# Altium footprint library arduino_PcbLib.PcbLib: 29 footprints (part 2 of 2)
Each footprint in its own frame and in the unit in brackets; x right, y up, seen from the top. Pads: shape width x height; smd on the part's side, far side on the other; paste and mask are expansions set on the pad; w line width, h text height; cw(c..) or ccw(c..) is an arc to the next point about the centre after c.
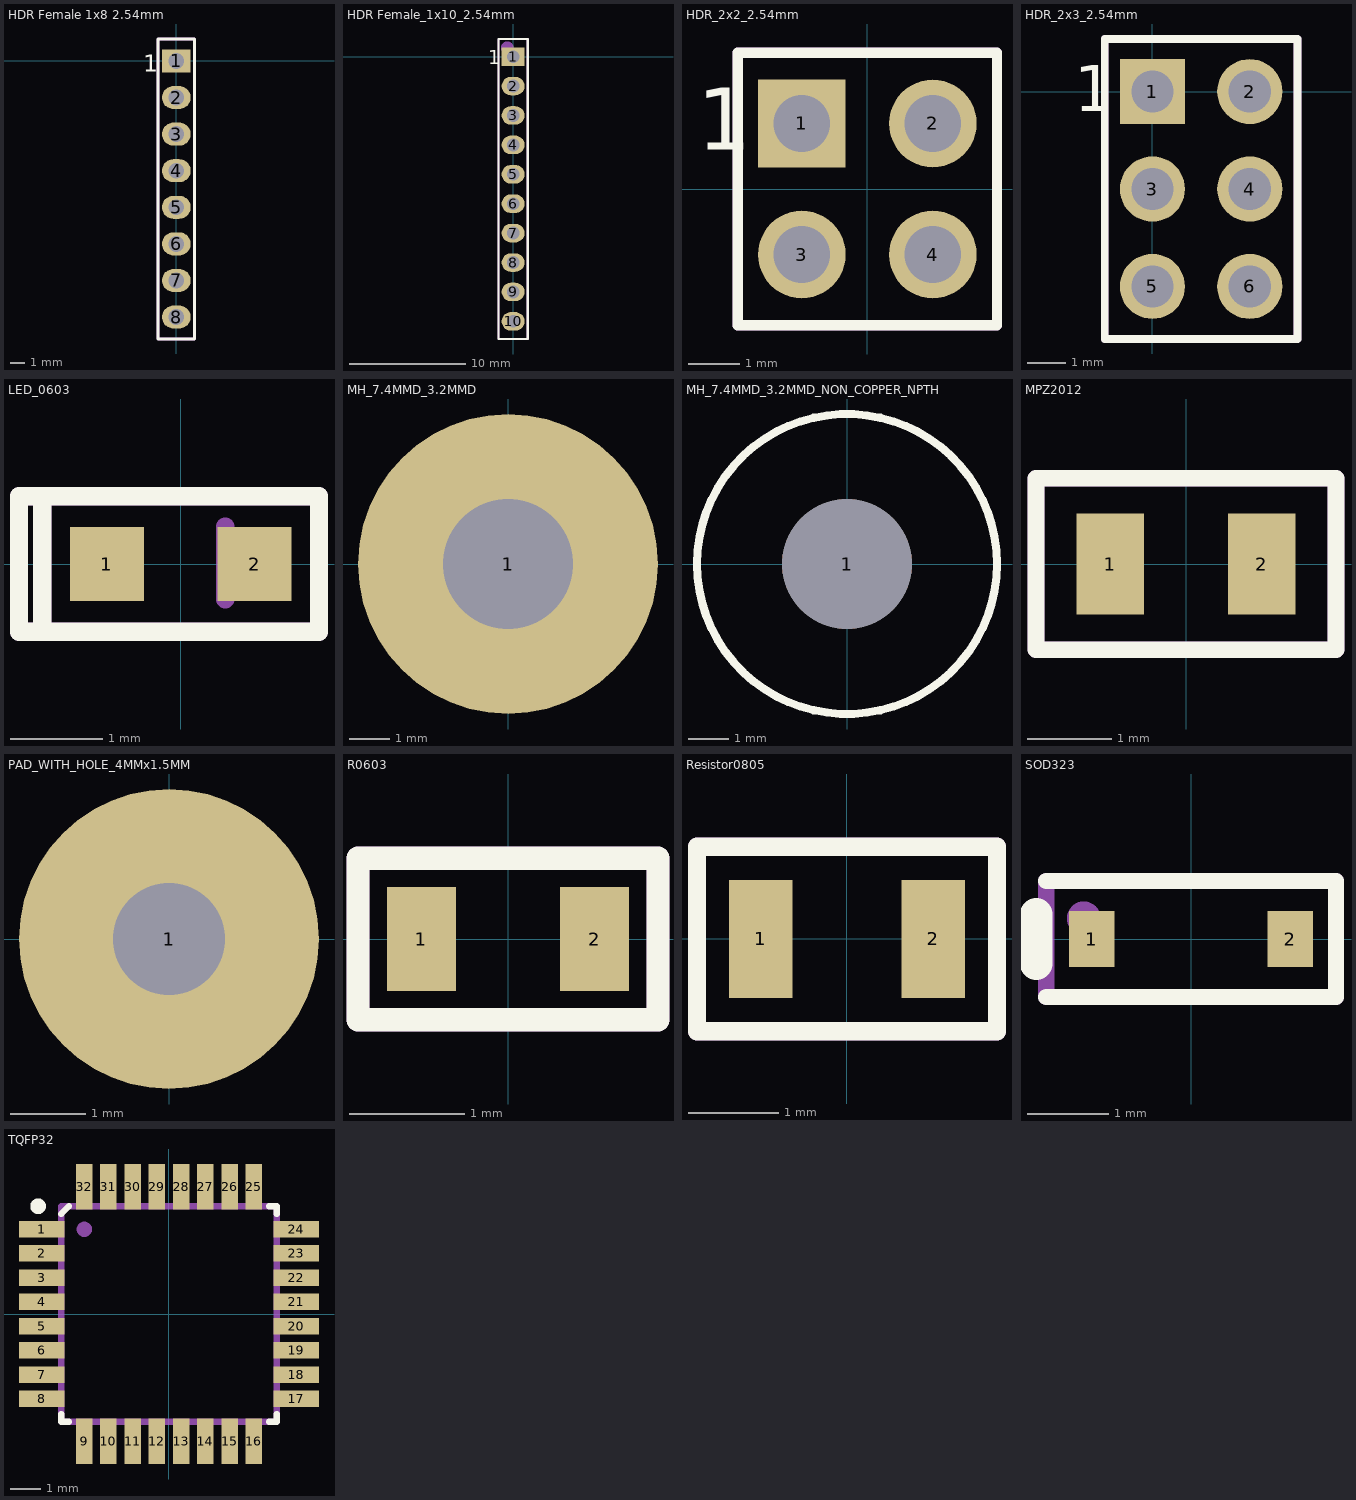
[diagram p1: the footprints below, top view; thin cyan lines are the x and y axes]

## HDR Female 1x8 2.54mm [mm]
pads (8):
  rect 2x1.6 hole 1.1: 1(0,0)
  oval 2x1.6 hole 1.1: 2(0,-2.54) 3(0,-5.08) 4(0,-7.62) 5(0,-10.16) 6(0,-12.7) 7(0,-15.24) 8(0,-17.78)
Top Overlay:
  lines w0.2: -1.27,-19.304 1.27,-19.304 1.27,1.524 -1.27,1.524 -1.27,-19.304
  text "1" at -2.286,-0.762 h1.2
Mechanical 29:
  circle w0.6: c0,0 r0.254
  lines w0.2: -1.27,-19.304 1.27,-19.304 1.27,1.524 -1.27,1.524 -1.27,-19.304
  text ".Designator" at 0.635,-15.24 h1.2
3D body "User Library-zl262-8s_p2-54_l20-82_w2-54_h8-5.step": height 8.51, standoff -2.99, extent -1.27,-19.3 1.27,1.52

## HDR Female_1x10_2.54mm [mm]
pads (10):
  rect 2x1.6 hole 1.1: 1(0,0)
  oval 2x1.6 hole 1.1: 2(0,-2.54) 3(0,-5.08) 4(0,-7.62) 5(0,-10.16) 6(0,-12.7) 7(0,-15.24) 8(0,-17.78) 9(0,-20.32) 10(0,-22.86)
Top Overlay:
  lines w0.2: -1.27,-24.384 1.27,-24.384 1.27,1.524 -1.27,1.524 -1.27,-24.384
  text "1" at -2.159,-0.635 h1.2
Mechanical 29:
  circle w0.6: c-0.508,0.762 r0.254
  lines w0.2: -1.27,-24.384 -1.27,1.524 1.27,1.524 1.27,-24.384 -1.27,-24.384
  text ".Designator" at 0.508,-18.034 h1.2
3D body "User Library-zl262-10s_p2-54_l25-9_w2-54_h8-5.step": height 8.5, standoff -3, extent -1.27,-24.38 1.27,1.52

## HDR_2x2_2.54mm [mm]
pads (4):
  rect 1.7x1.7 hole 1.1: 1(-1.27,1.27)
  round 1.7 hole 1.1: 2(1.27,1.27) 3(-1.27,-1.27) 4(1.27,-1.27)
Top Overlay:
  lines w0.2: -2.515,-2.642 -2.515,2.642 2.515,2.642 2.515,-2.642 -2.515,-2.642
  text "1" at -3.302,0.762 h1.2
Mechanical 29:
  circle w0.6: c-1.27,1.27 r0.254
  lines w0.2: -2.515,-2.642 2.515,-2.642 2.515,2.642 -2.515,2.642 -2.515,-2.642
  text ".Designator" at 0.6,-0.7 h1.2
3D body "HDR_2x2.stp": height 8.61, standoff -3.19, extent -2.5,-2.54 2.5,2.54

## HDR_2x3_2.54mm [mm]
pads (6):
  rect 1.7x1.7 hole 1.1: 1(0,0)
  round 1.7 hole 1.1: 2(2.54,0) 3(0,-2.54) 4(2.54,-2.54) 5(0,-5.08) 6(2.54,-5.08)
Top Overlay:
  lines w0.2: -1.245,-6.452 3.785,-6.452 3.785,1.372 -1.245,1.372 -1.245,-6.452
  text "1" at -2.032,-0.508 h1.2
Mechanical 29:
  circle w0.6: c0,0 r0.254
  lines w0.2: -1.245,-6.452 -1.245,1.372 3.785,1.372 3.785,-6.452 -1.245,-6.452
  text ".Designator" at 2.032,-3.556 h1.2
3D body "hdr2X32.54mm_3DModel-STEP-56544.STEP": height 8.6, standoff -3.29, extent -1.143,-6.35 3.683,1.27

## LED_0603 [mm]
pads (2):
  rect 0.8x0.8 smd: 1(-0.8,0) 2(0.8,0)
Top Overlay:
  lines w0.2: -1.499,-0.737 -1.499,0.737 ; -1.499,-0.737 1.499,-0.737 1.499,0.737 -1.499,0.737 ; -1.499,-0.737 -1.753,-0.737 -1.753,0.737 -1.499,0.737
Mechanical 29:
  lines w0.2: 0.483,-0.381 0.483,0.406 ; -1.499,-0.737 1.499,-0.737 1.499,0.737 -1.499,0.737 ; -1.499,-0.737 -1.499,0.737 ; -1.499,-0.737 -1.753,-0.737 -1.753,0.737 -1.499,0.737
  text ".Designator" at -0.686,-0.559 h1
3D body "User Library-LED SMD 0603 super red.step": height 0.66, standoff 0.01, extent -0.85,-0.4 0.85,0.4
3D body: height 0.65, standoff 0.65, extent -0.2,-0.2 0.2,0.2

## MH_7.4MMD_3.2MMD [mm]
pads (1):
  round 7.4 hole 3.2: 1(0,0)

## MH_7.4MMD_3.2MMD_NON_COPPER_NPTH [mm]
pads (1):
  round 3.2 hole 3.2 unplated: 1(0,0)
Top Overlay:
  circle w0.2: c0,0 r3.7

## MPZ2012 [mm]
pads (2):
  rect 0.8x1.2 smd: 1(-0.9,0) 2(0.9,0)
Top Overlay:
  lines w0.2: -1.778,-1.016 -1.778,1.016 1.778,1.016 1.778,-1.016 -1.778,-1.016
Mechanical 29:
  lines w0.2: -1.778,-1.016 -1.778,1.016 1.778,1.016 1.778,-1.016 -1.778,-1.016
  text ".Designator" at -1.016,-0.508 h1.2
3D body "User Library-CAPC2012X___.step": height 0.87, standoff 0, extent -1,-0.635 1,0.635

## PAD_WITH_HOLE_4MMx1.5MM [mm]
pads (1):
  round 4 hole 1.5: 1(0,0)

## R0603 [mm]
pads (2):
  rect 0.6x0.9 smd: 1(-0.75,0) 2(0.75,0)
Top Overlay:
  lines w0.2: -1.3,-0.7 -1.3,0.7 1.3,0.7 1.3,-0.7 -1.3,-0.7
Mechanical 29:
  lines w0.2: -1.3,-0.7 1.3,-0.7 1.3,0.7 -1.3,0.7 -1.3,-0.7
  text ".Designator" at -0.4,-0.2 h0.6
3D body "R0603.step": height 0.85, standoff 0.01, extent -0.8,-0.4 0.8,0.4

## Resistor0805 [mm]
pads (2):
  rect 0.7x1.3 smd: 1(-0.95,0) 2(0.95,0)
Top Overlay:
  lines w0.2: -1.651,-1.016 1.651,-1.016 1.651,1.016 -1.651,1.016 -1.651,-1.016
Mechanical 29:
  lines w0.2: -1.651,-1.016 1.651,-1.016 1.651,1.016 -1.651,1.016 -1.651,-1.016
  text ".Designator" at -0.889,-0.635 h1.2
3D body "User Library-Chip Resistor2012x0.5.step": height 0.71, standoff 0.01, extent -1,-0.6 1,0.6

## SOD323 [mil]
pads (2):
  rect 22x27 smd: 1(-48,0) 2(48,0)
Top Overlay:
  lines w7.87: -70,-28 70,-28 70,28 -70,28
  lines w15.75: -75,-12 -75,12
Mechanical 29:
  circle w10: c-51.84,10 r3.16
  lines w7.87: -70,-28 70,-28 70,28 -70,28 -70,-28
3D body "schottky_diode_BAT54HT1G.step": height 39.48, standoff 0.5, extent -49.21,-24.6 49.22,24.61

## TQFP32 [mm]
pads (32):
  rect 1.5x0.55 smd mask+0.06: 1(-4.2,2.8) 2(-4.2,2) 3(-4.2,1.2) 4(-4.2,0.4) 5(-4.2,-0.4) 6(-4.2,-1.2) 7(-4.2,-2) 8(-4.2,-2.8) 17(4.2,-2.8) 18(4.2,-2) 19(4.2,-1.2) 20(4.2,-0.4) 21(4.2,0.4) 22(4.2,1.2) 23(4.2,2) 24(4.2,2.8)
  rect 0.55x1.5 smd mask+0.06: 9(-2.8,-4.2) 10(-2,-4.2) 11(-1.2,-4.2) 12(-0.4,-4.2) 13(0.4,-4.2) 14(1.2,-4.2) 15(2,-4.2) 16(2.8,-4.2) 25(2.8,4.2) 26(2,4.2) 27(1.2,4.2) 28(0.4,4.2) 29(-0.4,4.2) 30(-1.2,4.2) 31(-2,4.2) 32(-2.8,4.2)
Top Overlay:
  circle w0.26: c-4.318,3.556 r0.127
  lines w0.2: -3.556,-3.302 -3.556,-3.556 -3.302,-3.556 ; -3.556,3.302 -3.302,3.556 ; 3.302,-3.556 3.556,-3.556 3.556,-3.302 ; 3.302,3.556 3.556,3.556 3.556,3.302
Mechanical 29:
  circle w0.254: c-2.794,2.794 r0.125
  lines w0.2: -3.556,-3.556 -3.556,3.556 3.556,3.556 3.556,-3.556 -3.556,-3.556
  text ".Designator" at -5.08,-0.254 h1.2
3D body "User Library-TQFP32-4.step": height 1, standoff -0.15, extent -4.512,-4.512 4.512,4.512